# Altium schematic symbol library 1206 47R.Schlib: 1 symbol
Pins are listed as number, name and electrical type; pins without a type are passive.

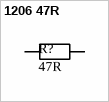
[diagram p0: symbol 1206 47R]

## 1206 47R
designator R?, comment value 47R  (hidden comment: Resistor)
47Ω ±5% 0.25W ±200ppm/℃ 1206 Chip Resistor - Surface Mount RoHS; LCSC Part #: C25384; ComponentLink1Description: LCSC - UNI-ROYAL(Uniroyal Elec) 1206W4J0470T5E; ComponentLink1URL: https://lcsc.com/product-detail/Chip-Resistor-Surface-Mount_Uniroyal-Elec-1206W4J0470T5E_C25384.html/?href=jlc-SMT; JLCPCB Part Type: Extended
footprint RES 1206_3216 (Chip Resistor, 2-Leads, Body 3.13x1.55mm, IPC Medium Density)
pins: 1, 2